# EAGLE library part ATMEGA328P-MMH (library ATMEGA328P-MMH)
Atmel ATMEGA328P-MMH, 8bit AVR Microcontroller, 20MHz, 32 kB Flash, 28-Pin QFN Source: Datasheet <http://uk.rs-online.com/web/p/products/8149138P>
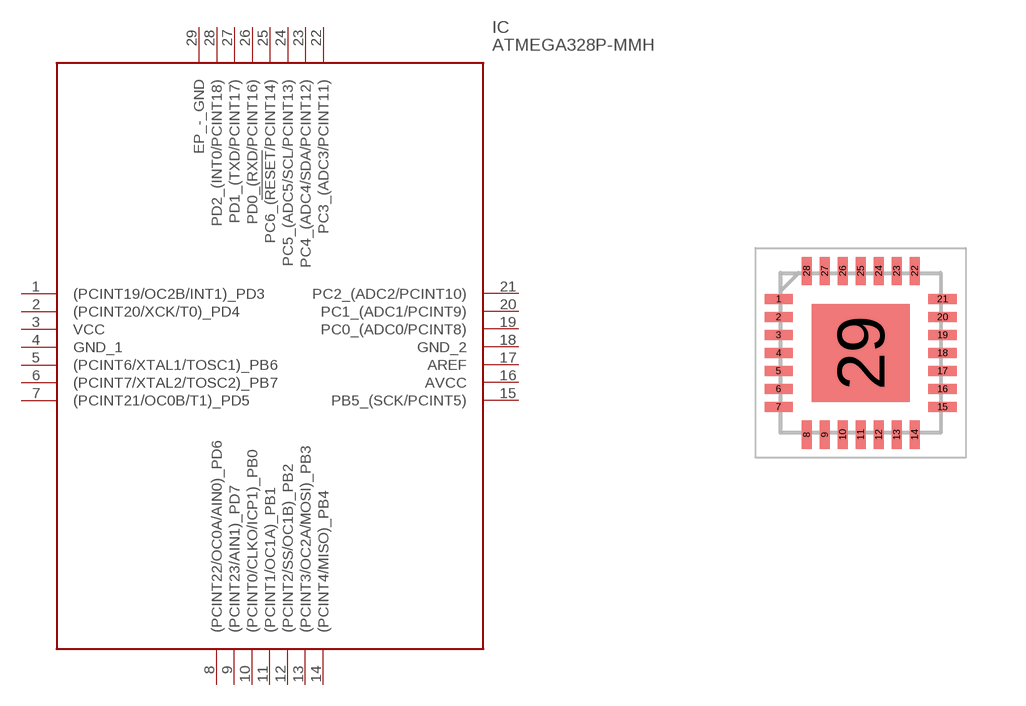
[diagram p0: symbol with the pads of QFN45P400X400X100-29N; footprint QFN45P400X400X100-29N]

Designator prefix IC

## ATMEGA328P-MMH (Arrow_Part_Number: ATMEGA328P-MMH; Arrow_Price-Stock: https://www.arrow.com/en/products/atmega328p-mmh/microchip-technology; Description: Atmel ATMEGA328P-MMH, 8bit AVR Microcontroller, 20MHz, 32 kB Flash, 28-Pin QFN; Height: 1mm; Manufacturer_Name: Microchip; Manufacturer_Part_Number: ATMEGA328P-MMH; RS_Part_Number: 1310272P; RS_Price-Stock: http://uk.rs-online.com/web/p/products/1310272P)  [QFN45P400X400X100-29N]
1  (PCINT19/OC2B/INT1)_PD3
2  (PCINT20/XCK/T0)_PD4
3  VCC
4  GND_1
5  (PCINT6/XTAL1/TOSC1)_PB6
6  (PCINT7/XTAL2/TOSC2)_PB7
7  (PCINT21/OC0B/T1)_PD5
8  (PCINT22/OC0A/AIN0)_PD6
9  (PCINT23/AIN1)_PD7
10  (PCINT0/CLKO/ICP1)_PB0
11  (PCINT1/OC1A)_PB1
12  (PCINT2/SS/OC1B)_PB2
13  (PCINT3/OC2A/MOSI)_PB3
14  (PCINT4/MISO)_PB4
15  PB5_(SCK/PCINT5)
16  AVCC
17  AREF
18  GND_2
19  PC0_(ADC0/PCINT8)
20  PC1_(ADC1/PCINT9)
21  PC2_(ADC2/PCINT10)
22  PC3_(ADC3/PCINT11)
23  PC4_(ADC4/SDA/PCINT12)
24  PC5_(ADC5/SCL/PCINT13)
25  PC6_(!RESET!/PCINT14)
26  PD0_(RXD/PCINT16)
27  PD1_(TXD/PCINT17)
28  PD2_(INT0/PCINT18)
29  EP_-_GND

## Footprint QFN45P400X400X100-29N (pad centres in mm)
VQFN 28M1
smd 0.7 x 0.25: 1 -2.05,1.35; 2 -2.05,0.9; 3 -2.05,0.45; 4 -2.05,0; 5 -2.05,-0.45; 6 -2.05,-0.9; 7 -2.05,-1.35; 15 2.05,-1.35; 16 2.05,-0.9; 17 2.05,-0.45; 18 2.05,0; 19 2.05,0.45; 20 2.05,0.9; 21 2.05,1.35
smd 0.25 x 0.7: 8 -1.35,-2.05; 9 -0.9,-2.05; 10 -0.45,-2.05; 11 0,-2.05; 12 0.45,-2.05; 13 0.9,-2.05; 14 1.35,-2.05; 22 1.35,2.05; 23 0.9,2.05; 24 0.45,2.05; 25 0,2.05; 26 -0.45,2.05; 27 -0.9,2.05; 28 -1.35,2.05
smd 2.45 x 2.45: 29 0,0